# EAGLE library part ADS868X (library testLib)
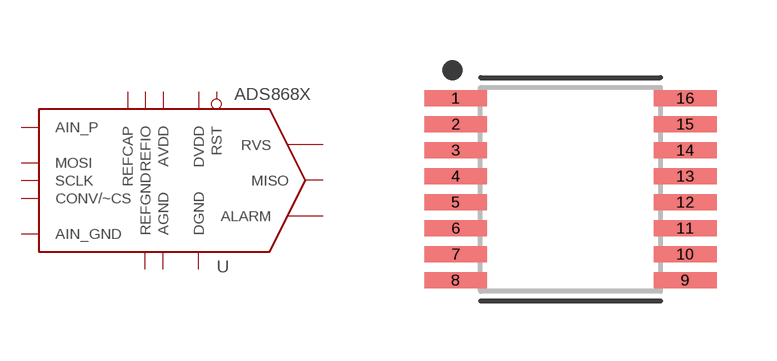
[diagram p10: symbol with the pads of SOP65P640X120-16N; footprint SOP65P640X120-16N]

Designator prefix U

## ADS868X  [SOP65P640X120-16N]
1  DGND  pwr
2  AVDD  pwr
3  AGND  pwr
4  REFIO
5  REFGND  pwr
6  REFCAP  out
7  AIN_P  in
8  AIN_GND  in
9  RST  in
10  MISO  out
11  CONV/~CS  in
12  SCLK  in
13  MOSI  in
14  ALARM  out
15  RVS  out
16  DVDD  pwr

## Footprint SOP65P640X120-16N (pad centres in mm)
16-SOP, 0.65 mm pitch, 6.40 mm span, 5.00 X 4.40 X 1.20 mm body 16-pin SOP package with 0.65 mm pitch, 6.40 mm span with body size 5.00 X 4.40 X 1.20 mm
smd 1.572 x 0.407: 1 -2.872,2.275; 2 -2.872,1.625; 3 -2.872,0.975; 4 -2.872,0.325; 5 -2.872,-0.325; 6 -2.872,-0.975; 7 -2.872,-1.625; 8 -2.872,-2.275; 9 2.872,-2.275; 10 2.872,-1.625; 11 2.872,-0.975; 12 2.872,-0.325; 13 2.872,0.325; 14 2.872,0.975; 15 2.872,1.625; 16 2.872,2.275